# Altium schematic symbol library DIP794W45P254L959H508Q8.SchLib: 1 symbol
Pins are listed as number, name and electrical type; pins without a type are passive.

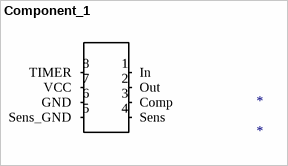
[diagram p0: symbol Component_1]

## Component_1
designator *
footprint DIP794W45P254L959H508Q8
pins: 1 In, 2 Out, 3 Comp, 4 Sens, 5 Sens_GND, 6 GND, 7 VCC, 8 TIMER